# EAGLE library part ACT4060 (library Regulator)
The ACT4060A is a current-mode step-down DC/DC converter that provides up to 2A of output current at 400kHz switching frequency. The device utilizes Active-Semi’s proprietary high voltage process for operation with input voltages up to 24V. The ACT4060A provides fast transient response and eases loop stabilization while providing excellent line and load regulation. This device features a very low ON-resistance power MOSFET which provides peak operating efficiency up to 96%. In shutdown mode, the ACT4060A consumes only 10μA of supply current. This device also integrates protection features including cycle-by-cycle current limit, thermal shutdown and frequency fold-back at short circuit. The ACT4060A is available in a SOP-8 package and requires very few external devices for operation.
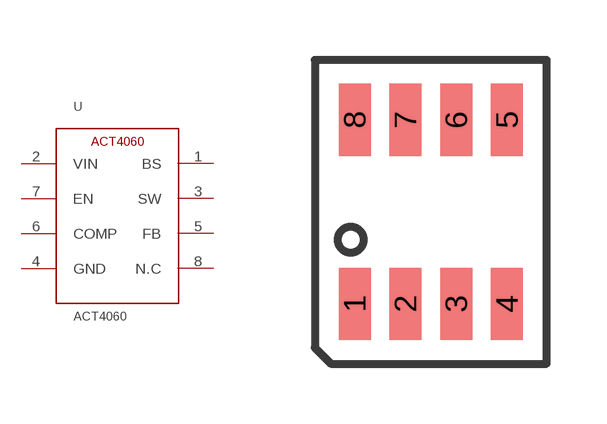
[diagram p9: symbol with the pads of SOP-8; footprint SOP-8]

Designator prefix U

## ACT4060ASH  [SOP-8]
1  BS
2  VIN  pwr
3  SW
4  GND  pwr
5  FB
6  COMP
7  EN
8  N.C  nc

## Footprint SOP-8 (pad centres in mm)
smd 0.8 x 1.8: 1 0,-0.2; 2 1.27,-0.2; 3 2.54,-0.2; 4 3.81,-0.2; 5 3.81,4.4; 6 2.54,4.4; 7 1.27,4.4; 8 0,4.4